# EAGLE library part FPGA-EP1C3T100(CYCLONE1) (library QuantumOptics)
FPGA, Altera Cyclone, EP1Cxx100x, such as EP1C3T100C6.
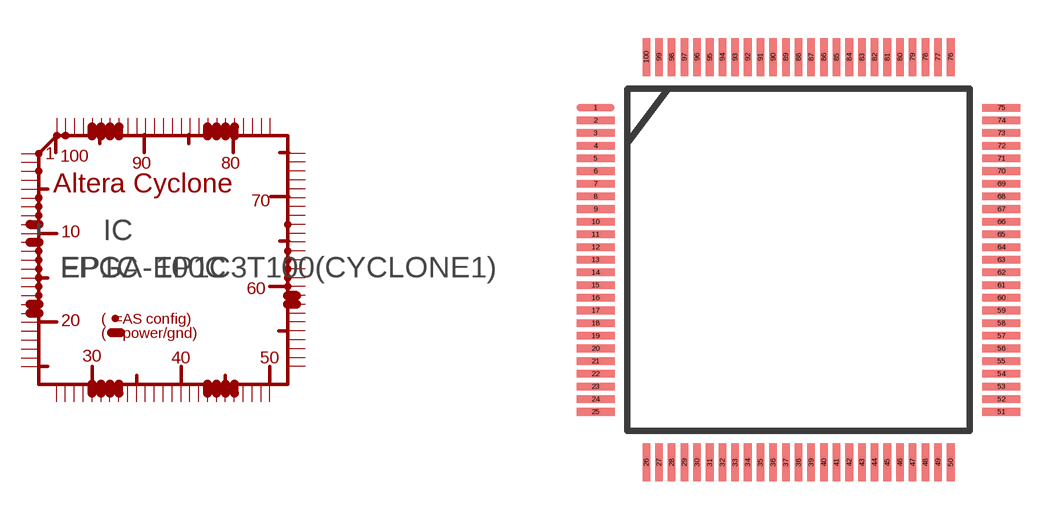
[diagram p48: symbol with the pads of TQFP100; footprint TQFP100]

Designator prefix IC

## FPGA-EP1C3T100(CYCLONE1)-TQFP100  [TQFP100]
1  1
2  2
3  3
4  4
5  5
6  6
7  7
8  8
9  9  in
10  10  in
11  11
12  12
13  13
14  14
15  15
16  16
17  17
18  18
19  19
20  20
21  21
22  22  in
23  23
24  24
25  25
26  26
27  27  in
28  28
29  29
30  30  in
31  31  in
32  32
33  33
34  34
35  35
36  36
37  37
38  38
39  39
40  40  in
41  41
42  42
43  43
44  44
45  45
46  46
47  47
48  48
49  49
50  50
51  51  in
52  52  in
53  53
54  54
55  55
56  56
57  57
58  58
59  59
60  60
61  61
62  62
63  63
64  64
65  65
66  66
67  67
68  68
69  69  in
70  70  in
71  71  in
72  72  in
73  73
74  74
75  75
76  76
77  77
78  78
79  79
80  80  in
81  81  in
82  82
83  83
84  84
85  85
86  86
87  87
88  88
89  89  in
90  90  in
91  91  in
92  92  in
93  93
94  94
95  95
96  96  in
97  97  in
98  98
99  99
100  100

## Footprint TQFP100 (pad centres in mm)
TQFP-100, from Altera.
smd 1.5 x 0.3: 1 -8.25,5.75; 2 -8.25,5.25; 3 -8.25,4.75; 4 -8.25,4.25; 5 -8.25,3.75; 6 -8.25,3.25; 7 -8.25,2.75; 8 -8.25,2.25; 9 -8.25,1.75; 10 -8.25,1.25; 11 -8.25,0.75; 12 -8.25,0.25; 13 -8.25,-0.25; 14 -8.25,-0.75; 15 -8.25,-1.25; 16 -8.25,-1.75; 17 -8.25,-2.25; 18 -8.25,-2.75; 19 -8.25,-3.25; 20 -8.25,-3.75; 21 -8.25,-4.25; 22 -8.25,-4.75; 23 -8.25,-5.25; 24 -8.25,-5.75; 25 -8.25,-6.25; 51 7.75,-6.25; 52 7.75,-5.75; 53 7.75,-5.25; 54 7.75,-4.75; 55 7.75,-4.25; 56 7.75,-3.75; 57 7.75,-3.25; 58 7.75,-2.75; 59 7.75,-2.25; 60 7.75,-1.75; 61 7.75,-1.25; 62 7.75,-0.75; 63 7.75,-0.25; 64 7.75,0.25; 65 7.75,0.75; 66 7.75,1.25; 67 7.75,1.75; 68 7.75,2.25; 69 7.75,2.75; 70 7.75,3.25; 71 7.75,3.75; 72 7.75,4.25; 73 7.75,4.75; 74 7.75,5.25; 75 7.75,5.75
smd 0.3 x 1.5: 26 -6.25,-8.25; 27 -5.75,-8.25; 28 -5.25,-8.25; 29 -4.75,-8.25; 30 -4.25,-8.25; 31 -3.75,-8.25; 32 -3.25,-8.25; 33 -2.75,-8.25; 34 -2.25,-8.25; 35 -1.75,-8.25; 36 -1.25,-8.25; 37 -0.75,-8.25; 38 -0.25,-8.25; 39 0.25,-8.25; 40 0.75,-8.25; 41 1.25,-8.25; 42 1.75,-8.25; 43 2.25,-8.25; 44 2.75,-8.25; 45 3.25,-8.25; 46 3.75,-8.25; 47 4.25,-8.25; 48 4.75,-8.25; 49 5.25,-8.25; 50 5.75,-8.25; 76 5.75,7.75; 77 5.25,7.75; 78 4.75,7.75; 79 4.25,7.75; 80 3.75,7.75; 81 3.25,7.75; 82 2.75,7.75; 83 2.25,7.75; 84 1.75,7.75; 85 1.25,7.75; 86 0.75,7.75; 87 0.25,7.75; 88 -0.25,7.75; 89 -0.75,7.75; 90 -1.25,7.75; 91 -1.75,7.75; 92 -2.25,7.75; 93 -2.75,7.75; 94 -3.25,7.75; 95 -3.75,7.75; 96 -4.25,7.75; 97 -4.75,7.75; 98 -5.25,7.75; 99 -5.75,7.75; 100 -6.25,7.75